# EAGLE library part GPS-UP501 (library 4534_Node_Board)
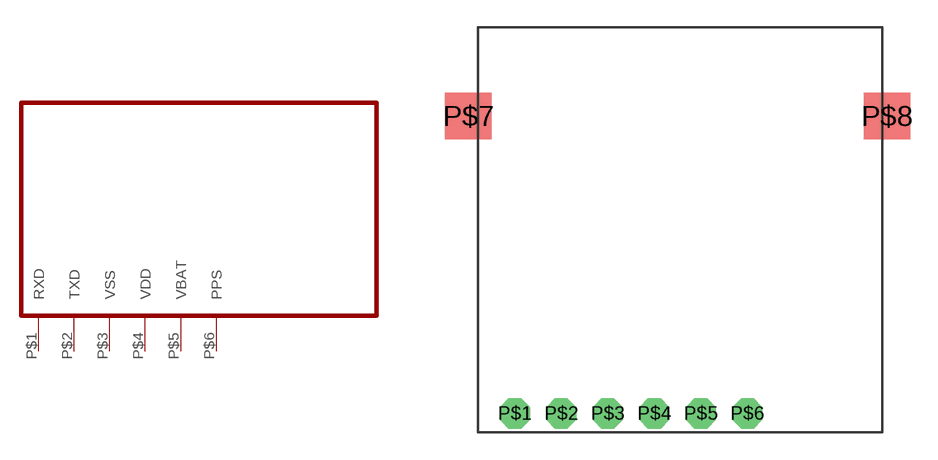
[diagram p3: symbol with the pads of GPS-UP501; footprint GPS-UP501]

Designator prefix -

## GPS-UP501  [GPS-UP501]
P$1  RXD
P$2  TXD
P$3  VSS
P$4  VDD
P$5  VBAT
P$6  PPS

## Footprint GPS-UP501 (pad centres in mm)
drill 1.1 octagon: P$1 -7.62,-6.35; P$2 -5.08,-6.35; P$3 -2.54,-6.35; P$4 0,-6.35; P$5 2.54,-6.35; P$6 5.08,-6.35
smd 2.54 x 2.54: P$7 -10.16,9.906; P$8 12.7,9.906